# Altium footprint library PcbLib1.PcbLib: 20 footprints (part 2 of 2)
Each footprint in its own frame and in the unit in brackets; x right, y up, seen from the top. Pads: shape width x height; smd on the part's side, far side on the other; paste and mask are expansions set on the pad; w line width, h text height; cw(c..) or ccw(c..) is an arc to the next point about the centre after c.
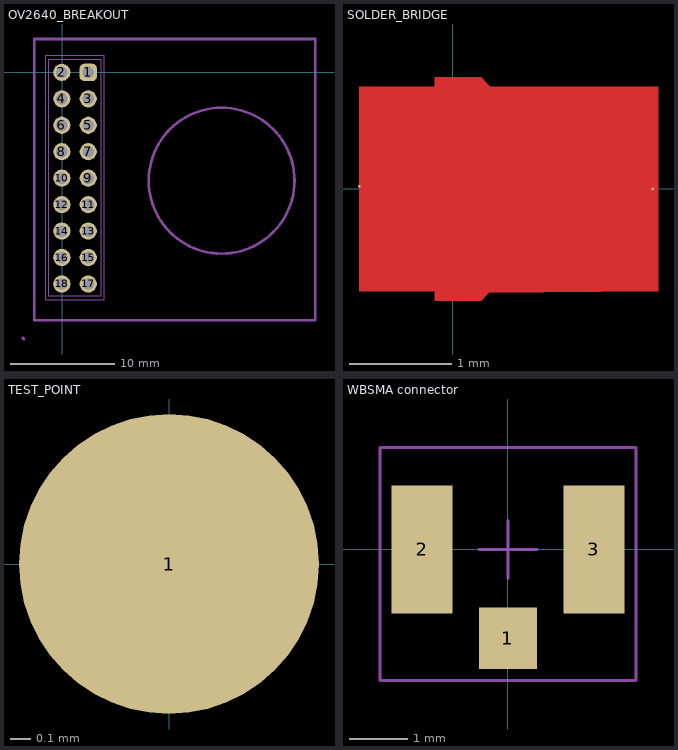
[diagram p1: the footprints below, top view; thin cyan lines are the x and y axes]

## OV2640_BREAKOUT [mm] "Breakout board for camera sensor"
pads (18):
  rrect50% 1.65x1.65 hole 1.1: 1(2.5,0)
  round 1.65 hole 1.1: 2(-0.04,0) 3(2.5,-2.54) 4(-0.04,-2.54) 5(2.5,-5.08) 6(-0.04,-5.08) 7(2.5,-7.62) 8(-0.04,-7.62) 9(2.5,-10.16) 10(-0.04,-10.16) 11(2.5,-12.7) 12(-0.04,-12.7) 13(2.5,-15.24) 14(-0.04,-15.24) 15(2.5,-17.78) 16(-0.04,-17.78) 17(2.5,-20.32) 18(-0.04,-20.32)
Mechanical 1:
  circle w0.254: c15.3,-10.4 r7
  lines w0.254: -2.7,-23.8 24.3,-23.8 24.3,3.2 -2.7,3.2 -2.7,-23.8
  text "17" at 2,-22 h1.02
  text "18" at -0.5,-22 h1.02
Top Courtyard:
  lines w0.05: -1.585,-21.82 -1.585,1.62 4.045,1.62 4.045,-21.82 -1.585,-21.82
  lines w0.254: -3.8,-25.5 -3.7,-25.6
Top Component Outline:
  lines w0.1: -1.31,-21.5 -1.31,1.27 3.77,1.27 3.77,-21.5 ; -1.31,-21.47 3.77,-21.47
Top Designator:
  text ".Designator" at 0.7,-2.402 h1.5

## SOLDER_BRIDGE [mil]
pads (2):
  round 1 smd mask+1.97: 1(-36,1) 2(77,0)
Top Layer:
  pour cut-out: -7,42.98 -7,-43 11,-43 50.85,0.04 11,42.98
  region: 79,39.37 79,-39.42 13,-40 50,0 13,39.37
  region: -36,-39.37 -36,39.37 -6.97,39.37 28.46,0 -6.97,-39.37

## TEST_POINT [mm]
pads (1):
  round 1.5 smd: 1(0,0)

## WBSMA connector [mm] "From Wurth"
pads (3):
  rect 1x1.05 smd: 1(0.006,-1.526)
  rect 1.05x2.2 smd: 2(-1.469,-0.001) 3(1.481,-0.001)
Top Courtyard:
  lines w0.05: -0.494,-0.001 0.506,-0.001 ; 0.006,-0.501 0.006,0.499 ; -2.194,-2.251 2.206,-2.251 2.206,1.75 -2.194,1.75 -2.194,-2.251
Top Designator:
  text ".Designator" at -2.914,1270.346 h0.58